# Altium schematic symbol library DC-044A.SchLib: 1 symbol
Pins are listed as number, name and electrical type; pins without a type are passive.

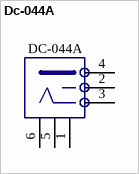
[diagram p0: symbol Dc-044A]

## Dc-044A
designator *  (value not drawn)
pins: 1, 2, 3, 4, 5, 6
text: DC-044A